# EAGLE library part SN74LVCC4245 (library TheMaker_Logic_v5)
OCTAL DUAL-SUPPLY BUS TRANSCEIVER WITH CONFIGURABLE OUTPUT VOLTAGE AND 3-STATE OUTPUTS SN74LVCC4245A
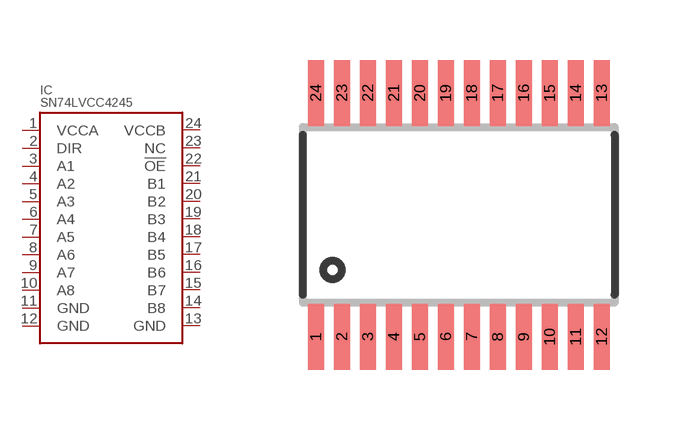
[diagram p0: symbol with the pads of TSSOP24; footprint TSSOP24]

Designator prefix IC

## SN74LVCC4245PW  [TSSOP24]
1  VCCA
2  DIR
3  A1
4  A2
5  A3
6  A4
7  A5
8  A6
9  A7
10  A8
11  GND
12  GND
13  GND
14  B8
15  B7
16  B6
17  B5
18  B4
19  B3
20  B2
21  B1
22  !OE
23  NC
24  VCCB

## Footprint TSSOP24 (pad centres in mm)
smd 0.4 x 1.65: 1 -3.575,-3.05; 2 -2.925,-3.05; 3 -2.275,-3.05; 4 -1.625,-3.05; 5 -0.975,-3.05; 6 -0.325,-3.05; 7 0.325,-3.05; 8 0.975,-3.05; 9 1.625,-3.05; 10 2.275,-3.05; 11 2.925,-3.05; 12 3.575,-3.05; 13 3.575,3.05; 14 2.925,3.05; 15 2.275,3.05; 16 1.625,3.05; 17 0.975,3.05; 18 0.325,3.05; 19 -0.325,3.05; 20 -0.975,3.05; 21 -1.625,3.05; 22 -2.275,3.05; 23 -2.925,3.05; 24 -3.575,3.05